# EAGLE library part 74LS51 (library atari)
Dual 2-Wide 2-Input, 2-Wide 3-Input AND-OR-INVERT Gate
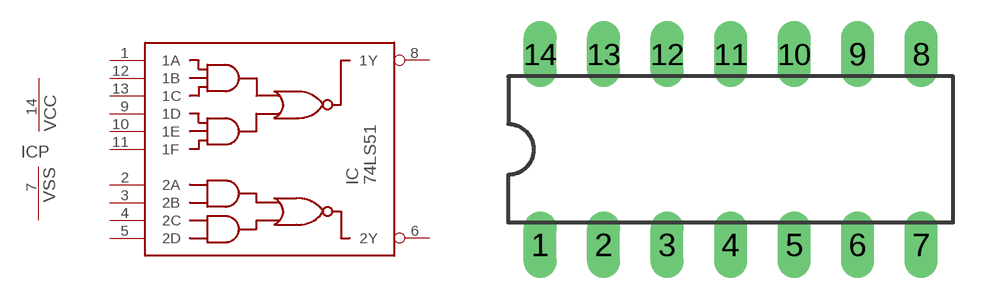
[diagram p1: symbol with the pads of DIL14; footprint DIL14]

Designator prefix IC; gates =74LS51 P=VCCVSS

## 74LS51  [DIL14]
1  :1A  in
2  :2A  in
3  :2B  in
4  :2C  in
5  :2D  in
6  :2Y  out
7  P:VSS  pwr
8  :1Y  out
9  :1D  in
10  :1E  in
11  :1F  in
12  :1B  in
13  :1C  in
14  P:VCC  pwr

## Footprint DIL14 (pad centres in mm)
drill 0.813 long: 1 -7.62,-3.81; 2 -5.08,-3.81; 3 -2.54,-3.81; 4 0,-3.81; 5 2.54,-3.81; 6 5.08,-3.81; 7 7.62,-3.81; 8 7.62,3.81; 9 5.08,3.81; 10 2.54,3.81; 11 0,3.81; 12 -2.54,3.81; 13 -5.08,3.81; 14 -7.62,3.81